# EAGLE library part ADG_19(SPST) (library QuantumOptics)
ADG719/819, AnaDev, SPST switch, 1.8 to 5.5V supply, 200MHz. The 819 has better Rds specs. ADG719: http://www.analog.com/en/prod/0,,768_833_ADG719%2C00.html ADG819: http://www.analog.com/en/prod/0,,ADG819,00.html
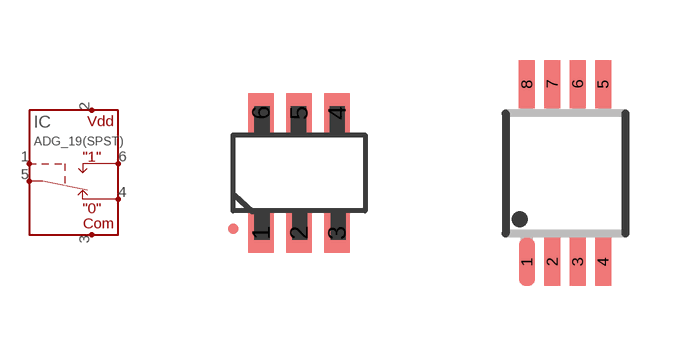
[diagram p73: symbol with the pads of SOT23-6; footprints SOT23-6, MSOP8]

Designator prefix IC

## ADG_19(SPST)-SOT23-6  [SOT23-6]
1  SW  in
2  VDD
3  COM
4  NC
5  C
6  NO

## ADG_19(SPST)-MSOP8  [MSOP8]
1  C
2  NC
3  COM
4  VDD
6  SW  in
8  NO

## Footprint SOT23-6 (pad centres in mm)
SOT-23 6-pin, on wonderful 0.95mm (~0.037") pad-pad spacing.
smd 0.635 x 0.991: 1 -0.95,-0.099; 2 0,-0.099; 3 0.95,-0.099; 4 0.95,2.901; 5 0,2.901; 6 -0.95,2.901

## Footprint MSOP8 (pad centres in mm)
MSOP-8, A.K.A. RM-8. Use 0.025" grid.
smd 0.4 x 1.2: 1 -0.635,-1.905; 2 0,-1.905; 3 0.635,-1.905; 4 1.27,-1.905; 5 1.27,2.54; 6 0.635,2.54; 7 0,2.54; 8 -0.635,2.54